# Altium footprint library KamerarSliderPCBLibrary.PcbLib: 6 footprints
Each footprint in its own frame and in the unit in brackets; x right, y up, seen from the top. Pads: shape width x height; smd on the part's side, far side on the other; paste and mask are expansions set on the pad; w line width, h text height; cw(c..) or ccw(c..) is an arc to the next point about the centre after c.
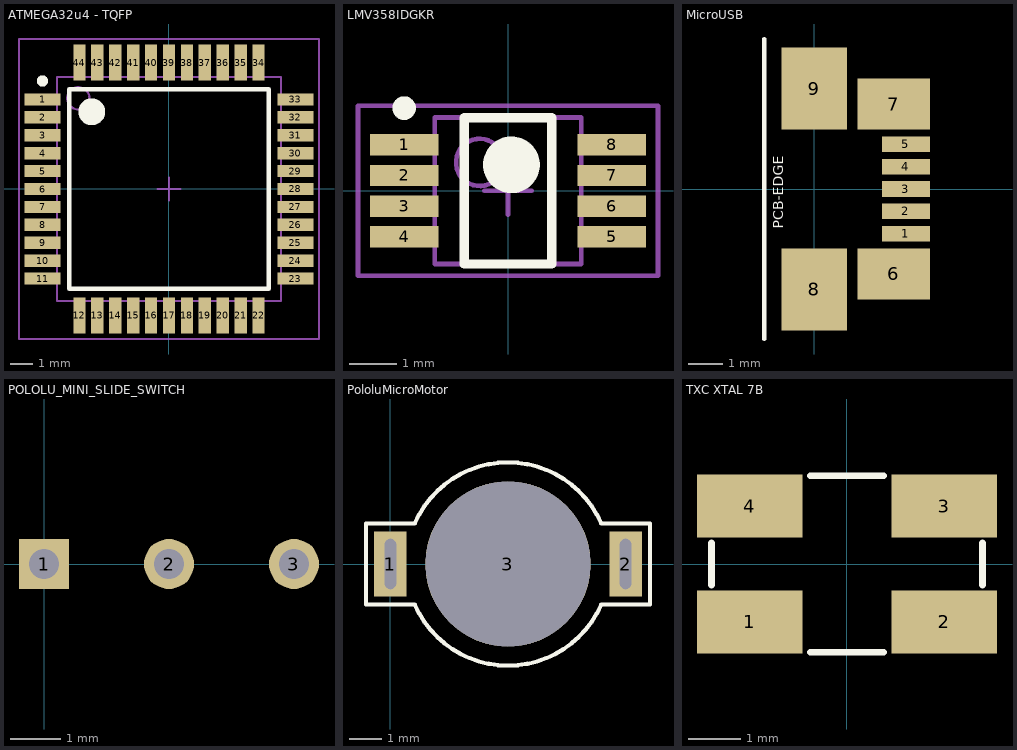
[diagram p0: the footprints below, top view; thin cyan lines are the x and y axes]

## ATMEGA32u4 - TQFP [mm] "TQFP, 44-Leads, Body 12.0x12.0mm (max), Pitch 0.80mm, IPC Medium Density"
height 1.2
pads (44):
  rect 1.6x0.55 smd: 1(-5.65,4) 2(-5.65,3.2) 3(-5.65,2.4) 4(-5.65,1.6) 5(-5.65,0.8) 6(-5.65,0) 7(-5.65,-0.8) 8(-5.65,-1.6) 9(-5.65,-2.4) 10(-5.65,-3.2) 11(-5.65,-4) 23(5.65,-4) 24(5.65,-3.2) 25(5.65,-2.4) 26(5.65,-1.6) 27(5.65,-0.8) 28(5.65,0) 29(5.65,0.8) 30(5.65,1.6) 31(5.65,2.4) 32(5.65,3.2) 33(5.65,4)
  rect 0.55x1.6 smd: 12(-4,-5.65) 13(-3.2,-5.65) 14(-2.4,-5.65) 15(-1.6,-5.65) 16(-0.8,-5.65) 17(0,-5.65) 18(0.8,-5.65) 19(1.6,-5.65) 20(2.4,-5.65) 21(3.2,-5.65) 22(4,-5.65) 34(4,5.65) 35(3.2,5.65) 36(2.4,5.65) 37(1.6,5.65) 38(0.8,5.65) 39(0,5.65) 40(-0.8,5.65) 41(-1.6,5.65) 42(-2.4,5.65) 43(-3.2,5.65) 44(-4,5.65)
Top Overlay:
  circle w0.25: c-5.65,4.825 r0.125
  circle w0.6: c-3.45,3.45 r0.3
  lines w0.2: -4.45,-4.45 -4.45,4.45 4.45,4.45 4.45,-4.45 -4.45,-4.45
Mechanical 13:
  circle w0.1: c-4.05,4.05 r0.5
  lines w0.1: -5,-5 -5,5 5,5 5,-5 -5,-5
Mechanical 15:
  lines w0.1: -0.5,0 0.5,0 ; 0,-0.5 0,0.5 ; -6.7,-6.7 -6.7,6.7 6.7,6.7 6.7,-6.7 -6.7,-6.7
3D body: height 1.2, standoff 0.05, extent -5,-5 5,5

## LMV358IDGKR [mm] "TEXAS INSTRUMENTS - LMV358IDGKR - OP AMP, LOW VOLTAGE, 1MHZ, 1V/US, MSOP-8"
height 1.1
pads (8):
  rect 1.45x0.45 smd: 1(-2.2,0.975) 2(-2.2,0.325) 3(-2.2,-0.325) 4(-2.2,-0.975) 5(2.2,-0.975) 6(2.2,-0.325) 7(2.2,0.325) 8(2.2,0.975)
Top Overlay:
  circle w0.6: c0.075,0.55 r0.3
  circle w0.25: c-2.2,1.75 r0.125
  lines w0.2: -0.925,-1.55 0.925,-1.55 0.925,1.55 -0.925,1.55 -0.925,-1.55
Mechanical 13:
  circle w0.1: c-0.6,0.6 r0.5
  lines w0.1: -1.55,-1.55 1.55,-1.55 1.55,1.55 -1.55,1.55 -1.55,-1.55
Mechanical 15:
  lines w0.1: -0.5,0 0.5,0 ; 0,-0.5 0,0.5 ; -3.175,-1.8 3.175,-1.8 3.175,1.8 -3.175,1.8 -3.175,-1.8
3D body: height 1.1, standoff 0.05, extent -1.55,-1.55 1.55,1.55

## MicroUSB [mm] "Micro USB2.0 Type B"
pads (9):
  rect 1.38x0.45 smd: 1(2.66,-1.3) 2(2.66,-0.65) 3(2.66,0) 4(2.66,0.65) 5(2.66,1.3)
  rect 2.1x1.475 smd: 6(2.3,-2.462) 7(2.3,2.462)
  rect 1.9x2.375 smd: 8(0,-2.913) 9(0,2.913)
Top Overlay:
  lines w0.127: -1.45,-4.35 -1.45,4.35
  text "PCB-EDGE" at -0.8,-1.157 h0.51
3D body: height 2.71, standoff -0.23, extent -2.58,-3.99 2.85,3.99

## POLOLU_MINI_SLIDE_SWITCH [mm] "Pololu #1408"
height 5
pads (3):
  rect 1x1 hole 0.6: 1(0,0)
  round 1 hole 0.6: 2(2.5,0) 3(5,0)
3D body: height 6.52, standoff -2.98, extent -1.75,-1.85 6.75,1.85

## PololuMicroMotor [mm]
pads (3):
  rect 1x2 hole 0.35 slot 1.55 at 90 deg: 1(0,0) 2(7.25,0)
  round 5.1 hole 5.1: 3(3.625,0)
Top Overlay:
  lines w0.127: -0.75,-1.25 -0.75,1.25 0.75,1.25 cw(c3.625,0) 6.5,1.25 8,1.25 8,-1.25 6.5,-1.25 cw(c3.625,0) 0.75,-1.25 -0.75,-1.25

## TXC XTAL 7B [mm] "5 x 3.2 mm SMD SEAM CRYSTAL 7B SERIES - 7B-16.000MAAJ-T"
pads (4):
  rect 2x1.2 smd: 1(-1.85,-1.1) 2(1.85,-1.1) 3(1.85,1.1) 4(-1.85,1.1)
Top Overlay:
  lines w0.127: -2.575,-0.4 -2.575,0.4 ; -0.7,-1.675 0.7,-1.675 ; -0.7,1.675 0.7,1.675 ; 2.575,-0.4 2.575,0.4